# Altium integrated library ST Automotive Ignition Circuit.IntLib: 12 symbols
Pins are listed as number, name and electrical type; pins without a type are passive.

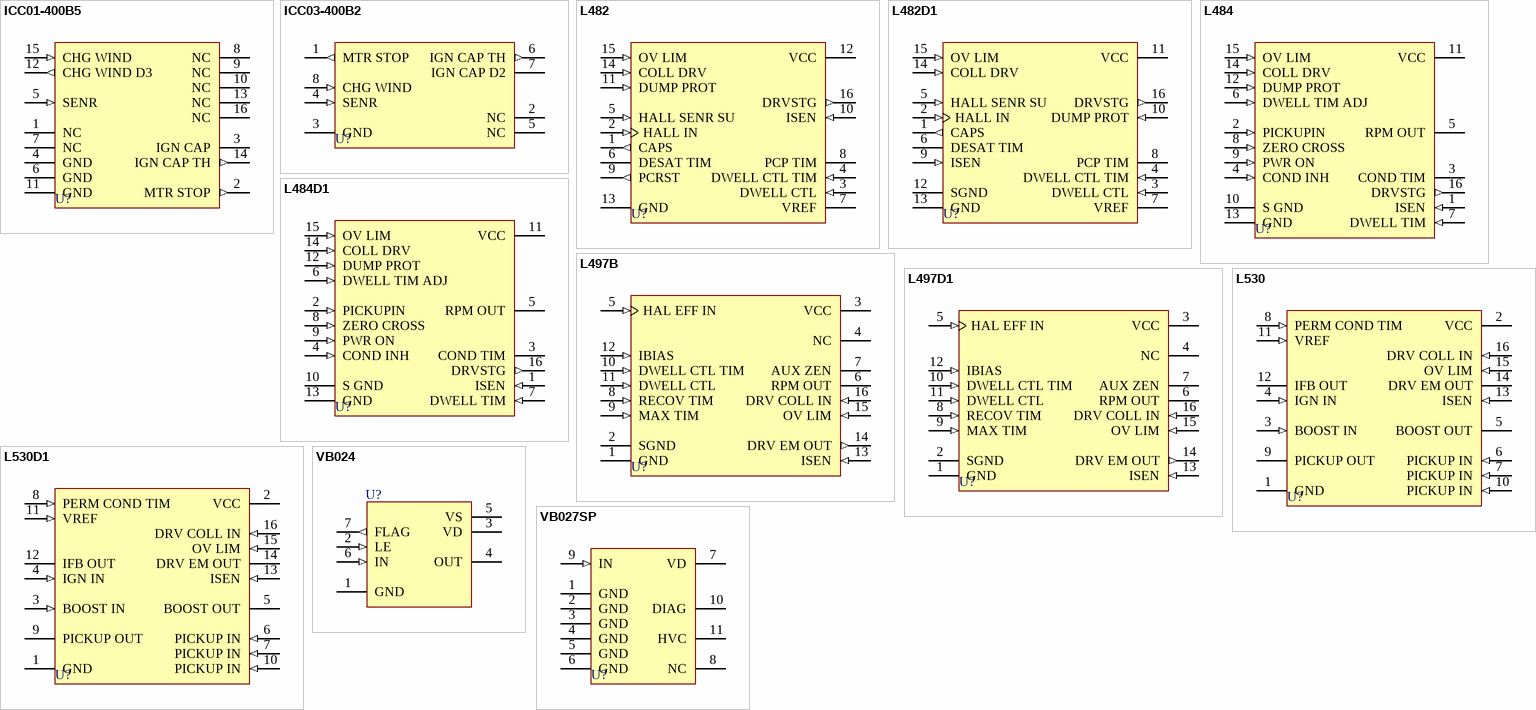
[diagram p0: symbols ICC01-400B5 to VB027SP]

## ICC01-400B5
designator U?
Ignition Control Circuit; Note: Pin numbers 1, 7-10, 13 and 16 are Not Connected (NC).; Published: 24-Aug-2001; LatestRevisionDate: 6-Jun-2005; LatestRevisionNote: Stylized 3D Model Added.; DatasheetDocument: Apr-1995; PackageDocument: May-1998; PackageReference: SO16; Publisher: Altium Limited; ComponentLink1Description: Manufacturer Link; ComponentLink1URL: http://www.st.com/
footprint SO16 (Small Outline; 16 Leads; Body Width 3.9 mm; Pitch 1.27 mm)
3D model SO16 (Small Outline; 16 Leads; Body Width 3.9 mm; Pitch 1.27 mm)
pins: 1 NC, 2 MTR STOP (out), 3 IGN CAP, 4 GND (power), 5 SENR (in), 6 GND (power), 7 NC, 8 NC, 9 NC, 10 NC, 11 GND (power), 12 CHG WIND D3 (out), 13 NC, 14 IGN CAP TH (out), 15 CHG WIND (in), 16 NC

## ICC03-400B2
designator U?
Ignition Control Circuit; Note: Pin numbers 2 and 5 are Not Connected (NC).; Published: 24-Aug-2001; LatestRevisionDate: 6-Jun-2005; LatestRevisionNote: Stylized 3D Model Added.; DatasheetDocument: Sep-1998; PackageReference: DIL8; Publisher: Altium Limited; ComponentLink1Description: Manufacturer Link; ComponentLink1URL: http://www.st.com/
footprint DIL8 (DIP; 8 Leads; Row Spacing 7.62 mm; Pitch 2.54 mm)
3D model DIL8 (DIP; 8 Leads; Row Spacing 7.62 mm; Pitch 2.54 mm)
pins: 1 MTR STOP (out), 2 NC, 3 GND (power), 4 SENR (in), 5 NC, 6 IGN CAP TH (out), 7 IGN CAP D2, 8 CHG WIND (in)

## L482
designator U?
Hall-Effect Pickup Ignition Controller; Published: 24-Aug-2001; LatestRevisionDate: 6-Jun-2005; LatestRevisionNote: Stylized 3D Model Added.; DatasheetDocument: Nov-1991; PackageDocument: Apr-1996; PackageReference: DIP16; Publisher: Altium Limited; ComponentLink1Description: Manufacturer Link; ComponentLink1URL: http://www.st.com/; ComponentLink2Description: Datasheet; ComponentLink2URL: http://www.st.com/stonline/products/literature/ds/1339/l482.pdf
footprint DIP16 (DIP; 16 Leads; Row Spacing 7.62 mm; Pitch 2.54 mm)
3D model DIP16 (DIP; 16 Leads; Row Spacing 7.62 mm; Pitch 2.54 mm)
pins: 1 CAPS (out), 2 HALL IN (in), 3 DWELL CTL (in), 4 DWELL CTL TIM (in), 5 HALL SENR SU (in), 6 DESAT TIM (oc), 7 VREF, 8 PCP TIM, 9 PCRST (out), 10 ISEN (in), 11 DUMP PROT (in), 12 VCC (power), 13 GND (power), 14 COLL DRV (in), 15 OV LIM (in), 16 DRVSTG (out)

## L482D1
designator U?
Hall-Effect Pickup Ignition Controller; Published: 24-Aug-2001; LatestRevisionDate: 6-Jun-2005; LatestRevisionNote: Stylized 3D Model Added.; DatasheetDocument: Nov-1991; PackageDocument: May-1998; PackageReference: SO16; Publisher: Altium Limited; ComponentLink1Description: Manufacturer Link; ComponentLink1URL: http://www.st.com/; ComponentLink2Description: Datasheet; ComponentLink2URL: http://www.st.com/stonline/products/literature/ds/1339/l482.pdf
footprint SO16 (Small Outline; 16 Leads; Body Width 3.9 mm; Pitch 1.27 mm)
3D model SO16 (Small Outline; 16 Leads; Body Width 3.9 mm; Pitch 1.27 mm)
pins: 1 CAPS (out), 2 HALL IN (in), 3 DWELL CTL (in), 4 DWELL CTL TIM (in), 5 HALL SENR SU (in), 6 DESAT TIM (oc), 7 VREF, 8 PCP TIM, 9 ISEN (in), 10 DUMP PROT (in), 11 VCC (power), 12 SGND (power), 13 GND (power), 14 COLL DRV (in), 15 OV LIM (in), 16 DRVSTG (out)

## L484
designator U?
Magnetic Pickup Ignition Controller; Published: 24-Aug-2001; LatestRevisionDate: 6-Jun-2005; LatestRevisionNote: Stylized 3D Model Added.; DatasheetDocument: Nov-1991; PackageDocument: Apr-1996; PackageReference: DIP16; Publisher: Altium Limited; ComponentLink1Description: Manufacturer Link; ComponentLink1URL: http://www.st.com/; ComponentLink2Description: Datasheet; ComponentLink2URL: http://www.st.com/stonline/products/literature/ds/1340/l484.pdf
footprint DIP16 (DIP; 16 Leads; Row Spacing 7.62 mm; Pitch 2.54 mm)
3D model DIP16 (DIP; 16 Leads; Row Spacing 7.62 mm; Pitch 2.54 mm)
pins: 1 ISEN (in), 2 PICKUPIN (in), 3 COND TIM, 4 COND INH (in), 5 RPM OUT (oc), 6 DWELL TIM ADJ (in), 7 DWELL TIM (in), 8 ZERO CROSS (in), 9 PWR ON (in), 10 S GND (power), 11 VCC (power), 12 DUMP PROT (in), 13 GND (power), 14 COLL DRV (in), 15 OV LIM (in), 16 DRVSTG (out)

## L484D1
designator U?
Magnetic Pickup Ignition Controller; Published: 24-Aug-2001; LatestRevisionDate: 6-Jun-2005; LatestRevisionNote: Stylized 3D Model Added.; DatasheetDocument: Nov-1991; PackageDocument: May-1998; PackageReference: SO16; Publisher: Altium Limited; ComponentLink1Description: Manufacturer Link; ComponentLink1URL: http://www.st.com/; ComponentLink2Description: Datasheet; ComponentLink2URL: http://www.st.com/stonline/products/literature/ds/1340/l484.pdf
footprint SO16 (Small Outline; 16 Leads; Body Width 3.9 mm; Pitch 1.27 mm)
3D model SO16 (Small Outline; 16 Leads; Body Width 3.9 mm; Pitch 1.27 mm)
pins: 1 ISEN (in), 2 PICKUPIN (in), 3 COND TIM, 4 COND INH (in), 5 RPM OUT (oc), 6 DWELL TIM ADJ (in), 7 DWELL TIM (in), 8 ZERO CROSS (in), 9 PWR ON (in), 10 S GND (power), 11 VCC (power), 12 DUMP PROT (in), 13 GND (power), 14 COLL DRV (in), 15 OV LIM (in), 16 DRVSTG (out)

## L497B
designator U?
Hall-Effect Pickup Ignition Controller; Note: Pin number 4 is Not Connected (NC).; Published: 24-Aug-2001; LatestRevisionDate: 6-Jun-2005; LatestRevisionNote: Stylized 3D Model Added.; DatasheetDocument: Mar-1998; PackageDocument: Apr-1996; PackageReference: DIP16; Publisher: Altium Limited; ComponentLink1Description: Manufacturer Link; ComponentLink1URL: http://www.st.com/; ComponentLink2Description: Datasheet; ComponentLink2URL: http://www.st.com/stonline/products/literature/ds/1360/l497.pdf
footprint DIP16 (DIP; 16 Leads; Row Spacing 7.62 mm; Pitch 2.54 mm)
3D model DIP16 (DIP; 16 Leads; Row Spacing 7.62 mm; Pitch 2.54 mm)
pins: 1 GND (power), 2 SGND (power), 3 VCC (power), 4 NC, 5 HAL EFF IN (in), 6 RPM OUT (oc), 7 AUX ZEN, 8 RECOV TIM (in), 9 MAX TIM (in), 10 DWELL CTL TIM (in), 11 DWELL CTL (in), 12 IBIAS (in), 13 ISEN (in), 14 DRV EM OUT (out), 15 OV LIM (in), 16 DRV COLL IN (in)

## L497D1
designator U?
Hall-Effect Pickup Ignition Controller; Note: Pin number 4 is Not Connected (NC).; Published: 24-Aug-2001; LatestRevisionDate: 6-Jun-2005; LatestRevisionNote: Stylized 3D Model Added.; DatasheetDocument: Mar-1998; PackageDocument: May-1998; PackageReference: SO16; Publisher: Altium Limited; ComponentLink1Description: Manufacturer Link; ComponentLink1URL: http://www.st.com/; ComponentLink2Description: Datasheet; ComponentLink2URL: http://www.st.com/stonline/products/literature/ds/1360/l497.pdf
footprint SO16 (Small Outline; 16 Leads; Body Width 3.9 mm; Pitch 1.27 mm)
3D model SO16 (Small Outline; 16 Leads; Body Width 3.9 mm; Pitch 1.27 mm)
pins: 1 GND (power), 2 SGND (power), 3 VCC (power), 4 NC, 5 HAL EFF IN (in), 6 RPM OUT (oc), 7 AUX ZEN, 8 RECOV TIM (in), 9 MAX TIM (in), 10 DWELL CTL TIM (in), 11 DWELL CTL (in), 12 IBIAS (in), 13 ISEN (in), 14 DRV EM OUT (out), 15 OV LIM (in), 16 DRV COLL IN (in)

## L530
designator U?
Electronic Ignition Interface; Published: 24-Aug-2001; LatestRevisionDate: 6-Jun-2005; LatestRevisionNote: Stylized 3D Model Added.; DatasheetDocument: May-1989; PackageDocument: Apr-1996; PackageReference: DIP16; Publisher: Altium Limited; ComponentLink1Description: Manufacturer Link; ComponentLink1URL: http://www.st.com/
footprint DIP16 (DIP; 16 Leads; Row Spacing 7.62 mm; Pitch 2.54 mm)
3D model DIP16 (DIP; 16 Leads; Row Spacing 7.62 mm; Pitch 2.54 mm)
pins: 1 GND (power), 2 VCC (power), 3 BOOST IN (in), 4 IGN IN (in), 5 BOOST OUT (oc), 6 PICKUP IN (in), 7 PICKUP IN (in), 8 PERM COND TIM (in), 9 PICKUP OUT (oc), 10 PICKUP IN (in), 11 VREF (in), 12 IFB OUT (oc), 13 ISEN (in), 14 DRV EM OUT (oe), 15 OV LIM (in), 16 DRV COLL IN (in)

## L530D1
designator U?
Electronic Ignition Interface; Published: 24-Aug-2001; LatestRevisionDate: 6-Jun-2005; LatestRevisionNote: Stylized 3D Model Added.; DatasheetDocument: May-1989; PackageDocument: May-1998; PackageReference: SO16; Publisher: Altium Limited; ComponentLink1Description: Manufacturer Link; ComponentLink1URL: http://www.st.com/
footprint SO16 (Small Outline; 16 Leads; Body Width 3.9 mm; Pitch 1.27 mm)
3D model SO16 (Small Outline; 16 Leads; Body Width 3.9 mm; Pitch 1.27 mm)
pins: 1 GND (power), 2 VCC (power), 3 BOOST IN (in), 4 IGN IN (in), 5 BOOST OUT (oc), 6 PICKUP IN (in), 7 PICKUP IN (in), 8 PERM COND TIM (in), 9 PICKUP OUT (oc), 10 PICKUP IN (in), 11 VREF (in), 12 IFB OUT (oc), 13 ISEN (in), 14 DRV EM OUT (oe), 15 OV LIM (in), 16 DRV COLL IN (in)

## VB024
designator U?
High-Voltage Ignition Coil Driver Power IC; Published: 24-Aug-2001; LatestRevisionDate: 17-Jul-2002; LatestRevisionNote: Re-released for DXP Platform.; DatasheetDocument: Sep-1993; PackageDocument: Sep-1993; PackageReference: ISOWATT7; Publisher: Altium Limited; ComponentLink1Description: Manufacturer Link; ComponentLink1URL: http://www.st.com/
footprint ISOWATT7 (TO, Thru-Hole, Vertical, Heatsink Mounted; 7 Bent Staggered Leads; Pitch 1.27 mm)
pins: 1 GND (power), 2 LE (in), 3 VD (power), 4 OUT (oc), 5 VS (power), 6 IN (in), 7 FLAG (out)

## VB027SP
designator U?
High-Voltage Ignition Coil Driver Power IC; Note: Pin number 8 is Not Connected (NC); Pin number 11 is the TAB.; Published: 24-Aug-2001; LatestRevisionDate: 17-Jul-2002; LatestRevisionNote: Re-released for DXP Platform.; DatasheetDocument: Jun-1999; PackageDocument: Jan-1999; PackageReference: PowerSO-10; Publisher: Altium Limited; ComponentLink1Description: Manufacturer Link; ComponentLink1URL: http://www.st.com/
footprint PowerSO-10 (Small Outline; 10 Leads; Body Width 9.4 mm; Pitch 1.27 mm)
pins: 1 GND (power), 2 GND (power), 3 GND (power), 4 GND (power), 5 GND (power), 6 GND (power), 7 VD (power), 8 NC, 9 IN (in), 10 DIAG (oe), 11 HVC (oc)